# Altium footprint library Transformer.PcbLib: 7 footprints
Each footprint in its own frame and in the unit in brackets; x right, y up, seen from the top. Pads: shape width x height; smd on the part's side, far side on the other; paste and mask are expansions set on the pad; w line width, h text height; cw(c..) or ccw(c..) is an arc to the next point about the centre after c.
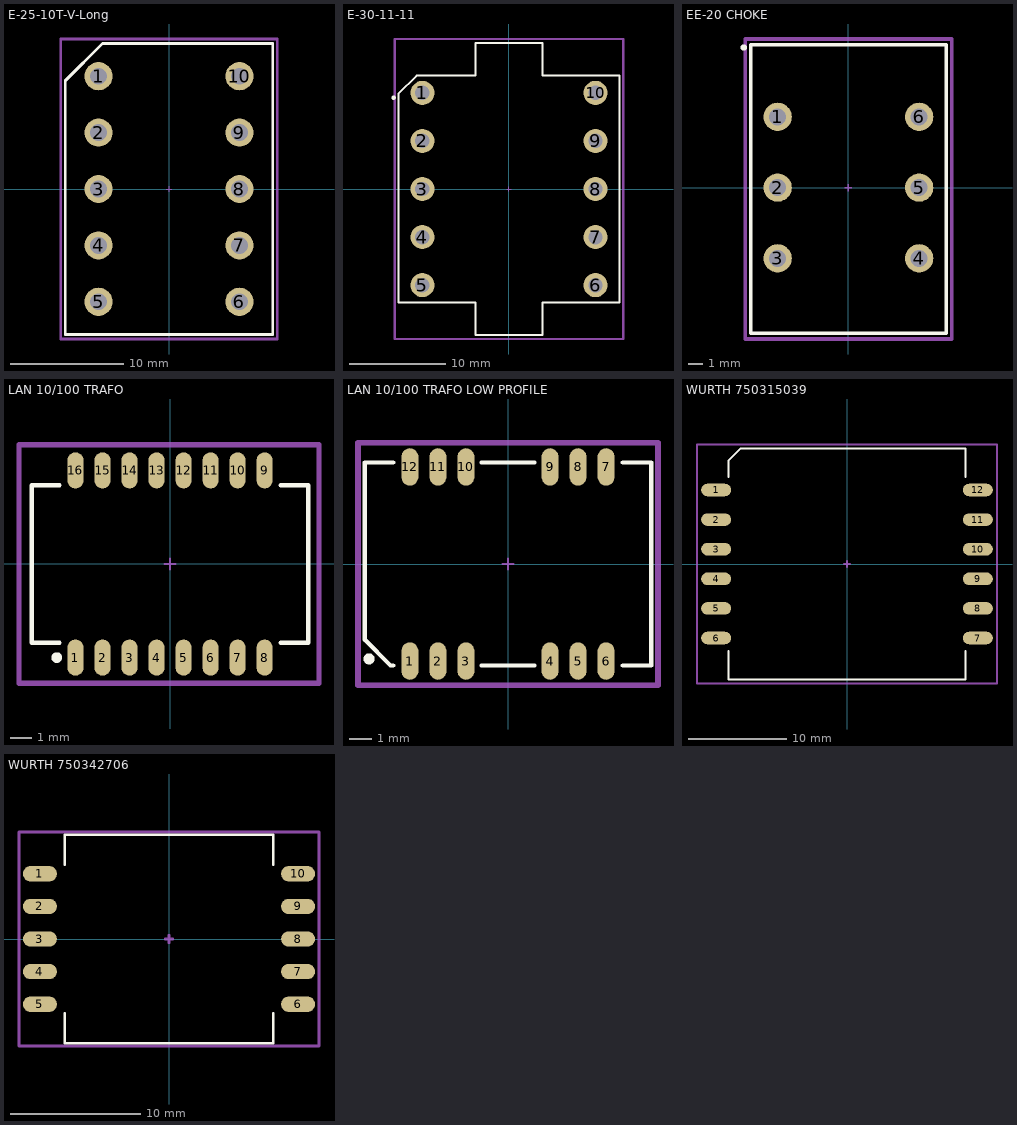
[diagram p0: the footprints below, top view; thin cyan lines are the x and y axes]

## E-25-10T-V-Long [mm] "E-25-10T-V-Long"
height 20
pads (10):
  round 2.5 hole 1.5: 1(-6.25,10) 2(-6.25,5) 3(-6.25,0) 4(-6.25,-5) 5(-6.25,-10) 6(6.25,-10) 7(6.25,-5) 8(6.25,0) 9(6.25,5) 10(6.25,10)
Top Overlay:
  lines w0.254: -9.2,-12.9 9.2,-12.9 9.2,12.9 -5.9,12.9 -9.2,9.6 -9.2,-12.9
Mechanical 15:
  lines w0.1: -0.25,0 0.25,0 ; 0,-0.25 0,0.25
  lines w0.254: -9.6,-13.3 9.6,-13.3 9.6,13.3 -9.6,13.3 -9.6,-13.3
3D body "Trafo EE25 low profile.STEP": height 21.55, standoff -3.4, extent -9,-12.7 9,12.7

## E-30-11-11 [mm]
height 28
pads (10):
  round 2.5 hole 1.5: 1(-9,10) 2(-9,5) 3(-9,0) 4(-9,-5) 5(-9,-10) 6(9,-10) 7(9,-5) 8(9,0) 9(9,5) 10(9,10)
Top Overlay:
  circle w0.254: c-12,9.5 r0.1
  lines w0.2: -11.5,-11.8 -11.5,9.9 -9.6,11.8 -3.5,11.8 -3.5,15.2 3.5,15.2 3.5,11.8 11.5,11.8 11.5,-11.8 3.5,-11.8 3.5,-15.2 -3.5,-15.2 -3.5,-11.8 -11.5,-11.8
Mechanical 15:
  lines w0.1: -0.25,0 0.25,0 ; 0,-0.25 0,0.25
  lines w0.254: -11.9,-15.6 -11.9,15.6 11.9,15.6 11.9,-15.6 -11.9,-15.6
3D body "User Library-Trafo EE25.STEP": height 27.15, standoff -3, extent -11.25,-15 11.25,15

## EE-20 CHOKE [mm] "E-25-10T-V-Long"
height 20
pads (6):
  round 2 hole 1.2: 1(-5,5) 2(-5,0) 3(-5,-5) 4(5,-5) 5(5,0) 6(5,5)
Top Overlay:
  circle w0.254: c-7.4,9.9 r0.1
  lines w0.254: -6.9,-10.3 -6.9,10.1 -0.74,10.1 6.9,10.1 6.9,-10.3 -6.9,-10.3
Mechanical 15:
  lines w0.1: -0.25,0 0.25,0 ; 0,-0.25 0,0.25
  lines w0.254: -7.3,-10.7 7.3,-10.7 7.3,10.5 -7.3,10.5 -7.3,-10.7
3D body "User Library-B82731T2801A020.step": height 20.41, standoff -3.5, extent -6.703,-10 6.703,10

## LAN 10/100 TRAFO [mm]
height 5.65
pads (16):
  oval 0.76x1.7 smd: 1(-4.445,-4.4) 2(-3.175,-4.4) 3(-1.905,-4.4) 4(-0.635,-4.4) 5(0.635,-4.4) 6(1.905,-4.4) 7(3.175,-4.4) 8(4.445,-4.4) 9(4.445,4.4) 10(3.175,4.4) 11(1.905,4.4) 12(0.635,4.4) 13(-0.635,4.4) 14(-1.905,4.4) 15(-3.175,4.4) 16(-4.445,4.4)
Top Overlay:
  circle w0.25: c-5.325,-4.4 r0.125
  lines w0.2: -5.2,-3.7 -6.5,-3.7 -6.5,3.7 -5.2,3.7 ; 5.2,-3.7 6.5,-3.7 6.5,3.7 5.2,3.7
Mechanical 15:
  lines w0.1: -0.25,0 0.25,0 ; 0,-0.25 0,0.25
  lines w0.254: -7.1,-5.6 -7.1,5.6 7,5.6 7,-5.6 -7.1,-5.6
3D body "User Library-b78476a8247a003.step": height 5.6, standoff 0, extent -6.35,-4.7 6.35,4.7

## LAN 10/100 TRAFO LOW PROFILE [mm]
height 2.08
pads (12):
  oval 0.76x1.7 smd: 1(-4.445,-4.4) 2(-3.175,-4.4) 3(-1.905,-4.4) 4(1.905,-4.4) 5(3.175,-4.4) 6(4.445,-4.4) 7(4.445,4.4) 8(3.175,4.4) 9(1.905,4.4) 10(-1.905,4.4) 11(-3.175,4.4) 12(-4.445,4.4)
Top Overlay:
  circle w0.25: c-6.3,-4.3 r0.125
  lines w0.2: -5.2,-4.6 -5.325,-4.6 -6.5,-3.425 -6.5,4.6 -5.2,4.6 ; -1.2,-4.6 1.2,-4.6 ; -1.2,4.6 1.2,4.6 ; 5.2,-4.6 6.5,-4.6 6.5,4.6 5.2,4.6
Mechanical 15:
  lines w0.1: -0.25,0 0.25,0 ; 0,-0.25 0,0.25
  lines w0.254: -6.8,-5.5 -6.8,5.5 6.8,5.5 6.8,-5.5 -6.8,-5.5
3D body "User Library-HX0068ANL.STEP": height 2.36, standoff -0.01, extent -6.35,-4.826 6.35,4.826

## WURTH 750315039 [mm]
height 11.43
pads (12):
  oval 3.05x1.27 smd: 1(-13.26,7.5) 2(-13.26,4.5) 3(-13.26,1.5) 4(-13.26,-1.5) 5(-13.26,-4.5) 6(-13.26,-7.5) 7(13.26,-7.5) 8(13.26,-4.5) 9(13.26,-1.5) 10(13.26,1.5) 11(13.26,4.5) 12(13.26,7.5)
Top Overlay:
  lines w0.2: -12,-8.8 -12,-11.7 12,-11.7 12,-8.8 ; -12,8.8 -12,10.5 -10.8,11.7 12,11.7 12,8.8
Mechanical 15:
  lines w0.2: -0.3,0 0.3,0 ; 0,-0.3 0,0.3 ; -15.2,-12.1 -15.2,12.1 15.2,12.1 15.2,-12.1 -15.2,-12.1
3D body "750315039.STEP": height 11.43, standoff 0, extent -14.54,-11.555 14.54,11.555

## WURTH 750342706 [mm]
height 8.89
pads (10):
  oval 2.62x1.17 smd: 1(-9.9,5) 2(-9.9,2.5) 3(-9.9,0) 4(-9.9,-2.5) 5(-9.9,-5) 6(9.9,-5) 7(9.9,-2.5) 8(9.9,0) 9(9.9,2.5) 10(9.9,5)
Top Overlay:
  lines w0.2: -8,-5.7 -8,-8 8,-8 8,-5.7 ; -8,5.7 -8,8 8,8 8,5.7
Mechanical 15:
  lines w0.2: -0.3,0 0.3,0 ; 0,-0.3 0,0.3 ; -11.5,-8.2 -11.5,8.2 11.5,8.2 11.5,-8.2 -11.5,-8.2
3D body "750342706.STEP": height 8.89, standoff 0, extent -11.175,-7.875 11.175,7.875